# Altium integrated library NSC Interface.IntLib: 1288 symbols (part 31 of 45)
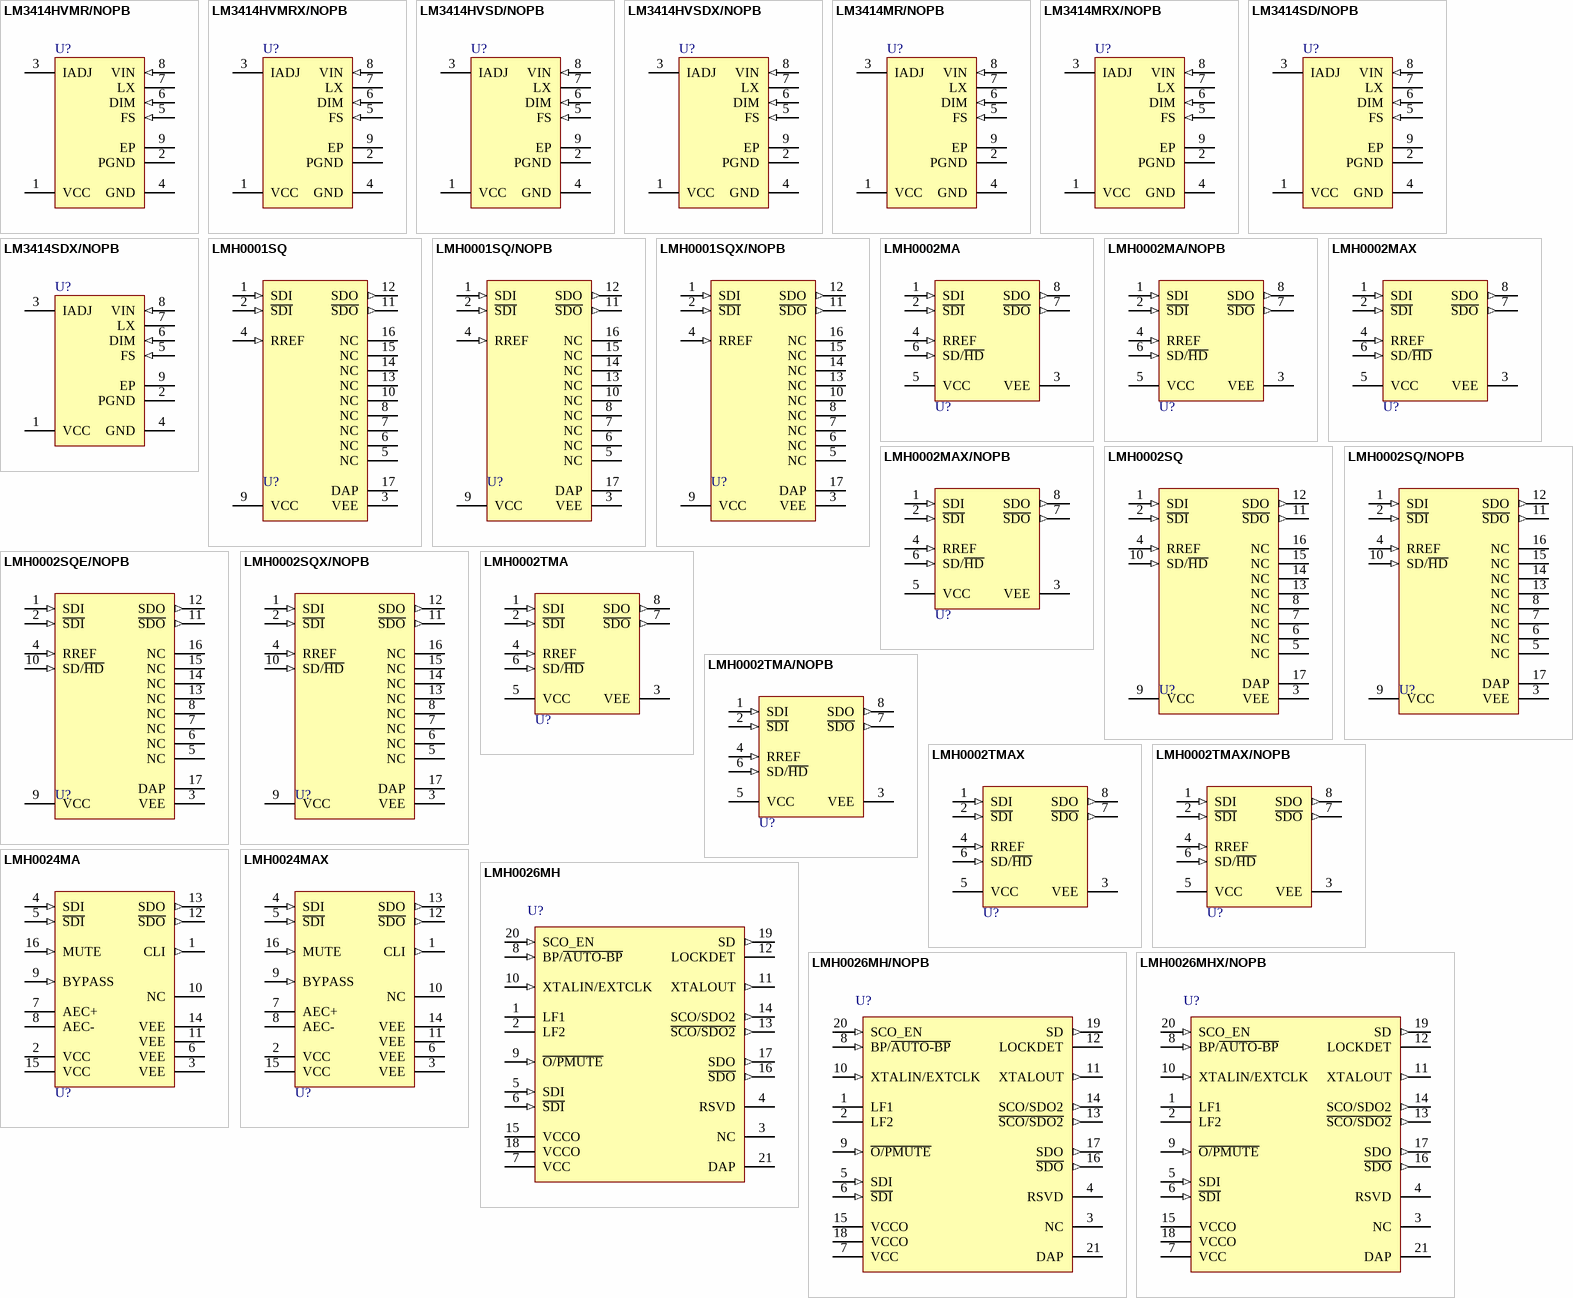
[diagram p142: symbols LM3414HVMR/NOPB to LMH0026MHX/NOPB]

## LMH0002SQ/NOPB
designator U?
SMPTE 292M / 259M Serial Digital Cable Driver, 16-pin LLP, Pb-Free; PartNumber: LMH0002SQ/NOPB; Manufacturer: National Semiconductor; PackageTopMarking: NS*UZXYTT*L002; PowerWise: N; CompType: Interface IC; Published: 1-Mar-2010; DatasheetVersion: Aug-2008; PackageVersion: revA, Dec-2005; PackageReference: SQB16A; Publisher: Altium Limited; PackageDescription: LLP, Plastic, Quad, 4 x 4 x 0.8mm, 16 Lead, 0.65mm Pitch, No Pullback; Supplier 1: Farnell; Supplier Part Number 1: 1345108; RoHS: Y; PinCount: 16; ComponentLink1Description: LMH0002 Datasheet; ComponentLink1URL: http://www.national.com/ds/LM/LMH0002.pdf; ComponentLink2Description: LMH0002 Web Page; ComponentLink2URL: http://www.national.com/pf/LM/LMH0002.html; ComponentLink3Description: SQB16A Package Page; ComponentLink3URL: http://www.national.com/packaging/folders/sqb16a.html
footprint SQB16A (QFN, 16-Leads, Body 4x4mm, Pitch 0.65mm, NSC Recommended)
pins: 1 SDI (in), 2 ~{SDI} (in), 3 VEE (power), 4 RREF (in), 5 NC, 6 NC, 7 NC, 8 NC, 9 VCC (power), 10 SD/~{HD} (in), 11 ~{SDO} (out), 12 SDO (out), 13 NC, 14 NC, 15 NC, 16 NC, 17 DAP (power)

## LMH0002SQE/NOPB
designator U?
SMPTE 292M / 259M Serial Digital Cable Driver, 16-pin LLP, Pb-Free; PartNumber: LMH0002SQE/NOPB; Manufacturer: National Semiconductor; PackageTopMarking: NS*UZXYTT*L002; PowerWise: N; CompType: Interface IC; Published: 1-Mar-2010; DatasheetVersion: Aug-2008; PackageVersion: revA, Dec-2005; PackageReference: SQB16A; Publisher: Altium Limited; PackageDescription: LLP, Plastic, Quad, 4 x 4 x 0.8mm, 16 Lead, 0.65mm Pitch, No Pullback; Supplier 1: Digi-Key; Supplier Part Number 1: LMH0002SQE/NOPBTR-ND; Supplier 2: Digi-Key; Supplier Part Number 2: LMH0002SQE/NOPBCT-ND; Supplier 3: Digi-Key; Supplier Part Number 3: LMH0002SQE/NOPBDKR-ND; RoHS: Y; PinCount: 16; ComponentLink1Description: LMH0002 Datasheet; ComponentLink1URL: http://www.national.com/ds/LM/LMH0002.pdf; ComponentLink2Description: LMH0002 Web Page; ComponentLink2URL: http://www.national.com/pf/LM/LMH0002.html; ComponentLink3Description: SQB16A Package Page; ComponentLink3URL: http://www.national.com/packaging/folders/sqb16a.html
footprint SQB16A (QFN, 16-Leads, Body 4x4mm, Pitch 0.65mm, NSC Recommended)
pins: 1 SDI (in), 2 ~{SDI} (in), 3 VEE (power), 4 RREF (in), 5 NC, 6 NC, 7 NC, 8 NC, 9 VCC (power), 10 SD/~{HD} (in), 11 ~{SDO} (out), 12 SDO (out), 13 NC, 14 NC, 15 NC, 16 NC, 17 DAP (power)

## LMH0002SQX/NOPB
designator U?
SMPTE 292M / 259M Serial Digital Cable Driver, 16-pin LLP, Pb-Free; PartNumber: LMH0002SQX/NOPB; Manufacturer: National Semiconductor; PackageTopMarking: NS*UZXYTT*L002; PowerWise: N; CompType: Interface IC; Published: 1-Mar-2010; DatasheetVersion: Aug-2008; PackageVersion: revA, Dec-2005; PackageReference: SQB16A; Publisher: Altium Limited; PackageDescription: LLP, Plastic, Quad, 4 x 4 x 0.8mm, 16 Lead, 0.65mm Pitch, No Pullback; Supplier 1: Digi-Key; Supplier Part Number 1: LMH0002SQX-ND; RoHS: Y; PinCount: 16; ComponentLink1Description: LMH0002 Datasheet; ComponentLink1URL: http://www.national.com/ds/LM/LMH0002.pdf; ComponentLink2Description: LMH0002 Web Page; ComponentLink2URL: http://www.national.com/pf/LM/LMH0002.html; ComponentLink3Description: SQB16A Package Page; ComponentLink3URL: http://www.national.com/packaging/folders/sqb16a.html
footprint SQB16A (QFN, 16-Leads, Body 4x4mm, Pitch 0.65mm, NSC Recommended)
pins: 1 SDI (in), 2 ~{SDI} (in), 3 VEE (power), 4 RREF (in), 5 NC, 6 NC, 7 NC, 8 NC, 9 VCC (power), 10 SD/~{HD} (in), 11 ~{SDO} (out), 12 SDO (out), 13 NC, 14 NC, 15 NC, 16 NC, 17 DAP (power)

## LMH0002TMA
designator U?
SMPTE 292M / 259M Serial Digital Cable Driver, 8-pin Narrow SOIC; PartNumber: LMH0002TMA; Manufacturer: National Semiconductor; PackageTopMarking: NSZXTT*L002T; PowerWise: N; CompType: Interface IC; Published: 4-Dec-2008; DatasheetVersion: Aug-2008; PackageVersion: revM, May-2009; PackageReference: M08A; Publisher: Altium Limited; PackageDescription: SOIC Narrow, 4.9 x 3.9 x 1.45mm, 8 Lead, 1.27mm Pitch; Supplier 1: Farnell; Supplier Part Number 1: 1286772; RoHS: N; PinCount: 8; Code_JEDEC: MS-012-AA; Code_IPC: SOIC127P600-8; ComponentLink1Description: LMH0002 Datasheet; ComponentLink1URL: http://www.national.com/ds/LM/LMH0002.pdf; ComponentLink2Description: LMH0002 Web Page; ComponentLink2URL: http://www.national.com/pf/LM/LMH0002.html; ComponentLink3Description: M08A Package Page; ComponentLink3URL: http://www.national.com/packaging/folders/m08a.html
footprint M08A_N (SOIC, 8-Leads, Body 4.9x3.9mm, Pitch 1.27mm, IPC Medium Density)
footprint M08A_L (SOIC, 8-Leads, Body 4.9x3.9mm, Pitch 1.27mm, IPC High Density)
footprint M08A_M (SOIC, 8-Leads, Body 4.9x3.9mm, Pitch 1.27mm, IPC Low Density)
pins: 1 SDI (in), 2 ~{SDI} (in), 3 VEE (power), 4 RREF (in), 5 VCC (power), 6 SD/~{HD} (in), 7 ~{SDO} (out), 8 SDO (out)

## LMH0002TMA/NOPB
designator U?
SMPTE 292M / 259M Serial Digital Cable Driver, 8-pin Narrow SOIC, Pb-Free; PartNumber: LMH0002TMA/NOPB; Manufacturer: National Semiconductor; PackageTopMarking: NSZXTT*L002T; PowerWise: N; CompType: Interface IC; Published: 1-Mar-2010; DatasheetVersion: Aug-2008; PackageVersion: revM, May-2009; PackageReference: M08A; Publisher: Altium Limited; PackageDescription: SOIC Narrow, 4.9 x 3.9 x 1.45mm, 8 Lead, 1.27mm Pitch; Supplier 1: Digi-Key; Supplier Part Number 1: LMH0002TMA-ND; RoHS: Y; PinCount: 8; Code_JEDEC: MS-012-AA; Code_IPC: SOIC127P600-8; ComponentLink1Description: LMH0002 Datasheet; ComponentLink1URL: http://www.national.com/ds/LM/LMH0002.pdf; ComponentLink2Description: LMH0002 Web Page; ComponentLink2URL: http://www.national.com/pf/LM/LMH0002.html; ComponentLink3Description: M08A Package Page; ComponentLink3URL: http://www.national.com/packaging/folders/m08a.html
footprint M08A_N (SOIC, 8-Leads, Body 4.9x3.9mm, Pitch 1.27mm, IPC Medium Density)
footprint M08A_L (SOIC, 8-Leads, Body 4.9x3.9mm, Pitch 1.27mm, IPC High Density)
footprint M08A_M (SOIC, 8-Leads, Body 4.9x3.9mm, Pitch 1.27mm, IPC Low Density)
pins: 1 SDI (in), 2 ~{SDI} (in), 3 VEE (power), 4 RREF (in), 5 VCC (power), 6 SD/~{HD} (in), 7 ~{SDO} (out), 8 SDO (out)

## LMH0002TMAX
designator U?
SMPTE 292M / 259M Serial Digital Cable Driver, 8-pin Narrow SOIC; PartNumber: LMH0002TMAX; Manufacturer: National Semiconductor; PackageTopMarking: NSZXTT*L002T; PowerWise: N; CompType: Interface IC; Published: 1-Mar-2010; DatasheetVersion: Aug-2008; PackageVersion: revM, May-2009; PackageReference: M08A; Publisher: Altium Limited; PackageDescription: SOIC Narrow, 4.9 x 3.9 x 1.45mm, 8 Lead, 1.27mm Pitch; RoHS: N; PinCount: 8; Code_JEDEC: MS-012-AA; Code_IPC: SOIC127P600-8; ComponentLink1Description: LMH0002 Datasheet; ComponentLink1URL: http://www.national.com/ds/LM/LMH0002.pdf; ComponentLink2Description: LMH0002 Web Page; ComponentLink2URL: http://www.national.com/pf/LM/LMH0002.html; ComponentLink3Description: M08A Package Page; ComponentLink3URL: http://www.national.com/packaging/folders/m08a.html
footprint M08A_N (SOIC, 8-Leads, Body 4.9x3.9mm, Pitch 1.27mm, IPC Medium Density)
footprint M08A_L (SOIC, 8-Leads, Body 4.9x3.9mm, Pitch 1.27mm, IPC High Density)
footprint M08A_M (SOIC, 8-Leads, Body 4.9x3.9mm, Pitch 1.27mm, IPC Low Density)
pins: 1 SDI (in), 2 ~{SDI} (in), 3 VEE (power), 4 RREF (in), 5 VCC (power), 6 SD/~{HD} (in), 7 ~{SDO} (out), 8 SDO (out)

## LMH0002TMAX/NOPB
designator U?
SMPTE 292M / 259M Serial Digital Cable Driver, 8-pin Narrow SOIC, Pb-Free; PartNumber: LMH0002TMAX/NOPB; Manufacturer: National Semiconductor; PackageTopMarking: NSZXTT*L002T; PowerWise: N; CompType: Interface IC; Published: 1-Mar-2010; DatasheetVersion: Aug-2008; PackageVersion: revM, May-2009; PackageReference: M08A; Publisher: Altium Limited; PackageDescription: SOIC Narrow, 4.9 x 3.9 x 1.45mm, 8 Lead, 1.27mm Pitch; Supplier 1: Digi-Key; Supplier Part Number 1: LMH0002TMAX-ND; RoHS: Y; PinCount: 8; Code_JEDEC: MS-012-AA; Code_IPC: SOIC127P600-8; ComponentLink1Description: LMH0002 Datasheet; ComponentLink1URL: http://www.national.com/ds/LM/LMH0002.pdf; ComponentLink2Description: LMH0002 Web Page; ComponentLink2URL: http://www.national.com/pf/LM/LMH0002.html; ComponentLink3Description: M08A Package Page; ComponentLink3URL: http://www.national.com/packaging/folders/m08a.html
footprint M08A_N (SOIC, 8-Leads, Body 4.9x3.9mm, Pitch 1.27mm, IPC Medium Density)
footprint M08A_L (SOIC, 8-Leads, Body 4.9x3.9mm, Pitch 1.27mm, IPC High Density)
footprint M08A_M (SOIC, 8-Leads, Body 4.9x3.9mm, Pitch 1.27mm, IPC Low Density)
pins: 1 SDI (in), 2 ~{SDI} (in), 3 VEE (power), 4 RREF (in), 5 VCC (power), 6 SD/~{HD} (in), 7 ~{SDO} (out), 8 SDO (out)

## LMH0024MA
designator U?
SMPTE 259M / 259M Adaptive Cable Equalizer, 16-pin Narrow SOIC; PartNumber: LMH0024MA; Manufacturer: National Semiconductor; PackageTopMarking: NSUZXYTTE#*L024; PowerWise: N; CompType: Interface IC; Published: 4-Dec-2008; DatasheetVersion: Jul-2009; PackageVersion: revJ, Aug-1995; PackageReference: M16A; Publisher: Altium Limited; PackageDescription: Molded Package, SO, .150in Wide, 16 Lead; RoHS: N; PinCount: 16; Code_JEDEC: MS-012-AC; Code_IPC: SOIC127P600-16; ComponentLink1Description: LMH0024 Datasheet; ComponentLink1URL: http://www.national.com/ds/LM/LMH0024.pdf; ComponentLink2Description: LMH0024 Web Page; ComponentLink2URL: http://www.national.com/pf/LM/LMH0024.html; ComponentLink3Description: M16A Package Page; ComponentLink3URL: http://www.national.com/packaging/folders/m16a.html
footprint M16A_N (SOIC, 16-Leads, Body 9.9x3.9mm, Pitch 1.27mm, IPC Medium Density)
footprint M16A_L (SOIC, 16-Leads, Body 9.9x3.9mm, Pitch 1.27mm, IPC High Density)
footprint M16A_M (SOIC, 16-Leads, Body 9.9x3.9mm, Pitch 1.27mm, IPC Low Density)
pins: 1 CLI (out), 2 VCC (power), 3 VEE (power), 4 SDI (in), 5 ~{SDI} (in), 6 VEE (power), 7 AEC+, 8 AEC-, 9 BYPASS (in), 10 NC, 11 VEE (power), 12 ~{SDO} (out), 13 SDO (out), 14 VEE (power), 15 VCC (power), 16 MUTE (in)

## LMH0024MAX
designator U?
3.3V SMPTE 259M / 344M Adaptive Cable Equalizer, 16-pin Narrow SOIC; PartNumber: LMH0024MAX; Manufacturer: National Semiconductor; PackageTopMarking: NSUZXYTTE#*L024; PowerWise: N; CompType: Interface IC; Published: 1-Mar-2010; DatasheetVersion: Jul-2009; PackageVersion: revJ, Aug-1995; PackageReference: M16A; Publisher: Altium Limited; PackageDescription: Molded Package, SO, .150in Wide, 16 Lead; RoHS: N; PinCount: 16; Code_JEDEC: MS-012-AC; Code_IPC: SOIC127P600-16; ComponentLink1Description: LMH0024 Datasheet; ComponentLink1URL: http://www.national.com/ds/LM/LMH0024.pdf; ComponentLink2Description: LMH0024 Web Page; ComponentLink2URL: http://www.national.com/pf/LM/LMH0024.html; ComponentLink3Description: M16A Package Page; ComponentLink3URL: http://www.national.com/packaging/folders/m16a.html
footprint M16A_N (SOIC, 16-Leads, Body 9.9x3.9mm, Pitch 1.27mm, IPC Medium Density)
footprint M16A_L (SOIC, 16-Leads, Body 9.9x3.9mm, Pitch 1.27mm, IPC High Density)
footprint M16A_M (SOIC, 16-Leads, Body 9.9x3.9mm, Pitch 1.27mm, IPC Low Density)
pins: 1 CLI (out), 2 VCC (power), 3 VEE (power), 4 SDI (in), 5 ~{SDI} (in), 6 VEE (power), 7 AEC+, 8 AEC-, 9 BYPASS (in), 10 NC, 11 VEE (power), 12 ~{SDO} (out), 13 SDO (out), 14 VEE (power), 15 VCC (power), 16 MUTE (in)

## LMH0026MH
designator U?
SD SDI Reclocker with Dual Differential Outputs, 20-pin TSSOP-EP; PartNumber: LMH0026MH; Manufacturer: National Semiconductor; PackageTopMarking: NSUZXYTT*L026; PowerWise: N; CompType: Interface IC; Published: 4-Dec-2008; DatasheetVersion: Mar-2008; PackageVersion: revC, Jul-2006; PackageReference: MXA20A; Publisher: Altium Limited; PackageDescription: Molded TSSOP, Jedec, 6.5 x 4.4 x 0.9mm Body, 20 Lead, 0.65mm Pitch, Exposed Pad; Supplier 1: Farnell; Supplier Part Number 1: 1689547; RoHS: Y; PinCount: 20; Code_JEDEC: MO-153-ACT; ComponentLink1Description: LMH0026 Datasheet; ComponentLink1URL: http://www.national.com/ds/LM/LMH0026.pdf; ComponentLink2Description: LMH0026 Web Page; ComponentLink2URL: http://www.national.com/pf/LM/LMH0026.html; ComponentLink3Description: MXA20A Package Page; ComponentLink3URL: http://www.national.com/packaging/folders/mxa20a.html
footprint MXA20A_N (TSOP, 20-Leads, Body 6.5x4.4mm, Pitch 0.65mm, Exposed Pad, IPC Medium Density)
footprint MXA20A_L (TSOP, 20-Leads, Body 6.5x4.4mm, Pitch 0.65mm, Exposed Pad, IPC High Density)
footprint MXA20A_M (TSOP, 20-Leads, Body 6.5x4.4mm, Pitch 0.65mm, Exposed Pad, IPC Low Density)
pins: 1 LF1, 2 LF2, 3 NC, 4 RSVD, 5 SDI (in), 6 ~{SDI} (in), 7 VCC (power), 8 BP/~{AUTO-BP} (in), 9 ~{O/PMUTE} (in), 10 XTALIN/EXTCLK (in), 11 XTALOUT (out), 12 LOCKDET, 13 ~{SCO/SDO2} (out), 14 SCO/SDO2 (out), 15 VCCO (power), 16 ~{SDO} (out), 17 SDO (out), 18 VCCO (power), 19 SD (out), 20 SCO_EN (in), 21 DAP (power)

## LMH0026MH/NOPB
designator U?
SD SDI Reclocker with Dual Differential Outputs, 20-pin TSSOP-EP, Pb-Free; PartNumber: LMH0026MH/NOPB; Manufacturer: National Semiconductor; PackageTopMarking: NSUZXYTT*L026; PowerWise: N; CompType: Interface IC; Published: 1-Mar-2010; DatasheetVersion: Mar-2008; PackageVersion: revC, Jul-2006; PackageReference: MXA20A; Publisher: Altium Limited; PackageDescription: Molded TSSOP, Jedec, 6.5 x 4.4 x 0.9mm Body, 20 Lead, 0.65mm Pitch, Exposed Pad; Supplier 1: Digi-Key; Supplier Part Number 1: LMH0026MH-ND; RoHS: Y; PinCount: 20; Code_JEDEC: MO-153-ACT; ComponentLink1Description: LMH0026 Datasheet; ComponentLink1URL: http://www.national.com/ds/LM/LMH0026.pdf; ComponentLink2Description: LMH0026 Web Page; ComponentLink2URL: http://www.national.com/pf/LM/LMH0026.html; ComponentLink3Description: MXA20A Package Page; ComponentLink3URL: http://www.national.com/packaging/folders/mxa20a.html
footprint MXA20A_N (TSOP, 20-Leads, Body 6.5x4.4mm, Pitch 0.65mm, Exposed Pad, IPC Medium Density)
footprint MXA20A_L (TSOP, 20-Leads, Body 6.5x4.4mm, Pitch 0.65mm, Exposed Pad, IPC High Density)
footprint MXA20A_M (TSOP, 20-Leads, Body 6.5x4.4mm, Pitch 0.65mm, Exposed Pad, IPC Low Density)
pins: 1 LF1, 2 LF2, 3 NC, 4 RSVD, 5 SDI (in), 6 ~{SDI} (in), 7 VCC (power), 8 BP/~{AUTO-BP} (in), 9 ~{O/PMUTE} (in), 10 XTALIN/EXTCLK (in), 11 XTALOUT (out), 12 LOCKDET, 13 ~{SCO/SDO2} (out), 14 SCO/SDO2 (out), 15 VCCO (power), 16 ~{SDO} (out), 17 SDO (out), 18 VCCO (power), 19 SD (out), 20 SCO_EN (in), 21 DAP (power)

## LMH0026MHX/NOPB
designator U?
SD SDI Reclocker with Dual Differential Outputs, 20-pin TSSOP-EP, Pb-Free; PartNumber: LMH0026MHX/NOPB; Manufacturer: National Semiconductor; PackageTopMarking: NSUZXYTT*L026; PowerWise: N; CompType: Interface IC; Published: 1-Mar-2010; DatasheetVersion: Mar-2008; PackageVersion: revC, Jul-2006; PackageReference: MXA20A; Publisher: Altium Limited; PackageDescription: Molded TSSOP, Jedec, 6.5 x 4.4 x 0.9mm Body, 20 Lead, 0.65mm Pitch, Exposed Pad; Supplier 1: Digi-Key; Supplier Part Number 1: LMH0026MHX-ND; RoHS: Y; PinCount: 20; Code_JEDEC: MO-153-ACT; ComponentLink1Description: LMH0026 Datasheet; ComponentLink1URL: http://www.national.com/ds/LM/LMH0026.pdf; ComponentLink2Description: LMH0026 Web Page; ComponentLink2URL: http://www.national.com/pf/LM/LMH0026.html; ComponentLink3Description: MXA20A Package Page; ComponentLink3URL: http://www.national.com/packaging/folders/mxa20a.html
footprint MXA20A_N (TSOP, 20-Leads, Body 6.5x4.4mm, Pitch 0.65mm, Exposed Pad, IPC Medium Density)
footprint MXA20A_L (TSOP, 20-Leads, Body 6.5x4.4mm, Pitch 0.65mm, Exposed Pad, IPC High Density)
footprint MXA20A_M (TSOP, 20-Leads, Body 6.5x4.4mm, Pitch 0.65mm, Exposed Pad, IPC Low Density)
pins: 1 LF1, 2 LF2, 3 NC, 4 RSVD, 5 SDI (in), 6 ~{SDI} (in), 7 VCC (power), 8 BP/~{AUTO-BP} (in), 9 ~{O/PMUTE} (in), 10 XTALIN/EXTCLK (in), 11 XTALOUT (out), 12 LOCKDET, 13 ~{SCO/SDO2} (out), 14 SCO/SDO2 (out), 15 VCCO (power), 16 ~{SDO} (out), 17 SDO (out), 18 VCCO (power), 19 SD (out), 20 SCO_EN (in), 21 DAP (power)

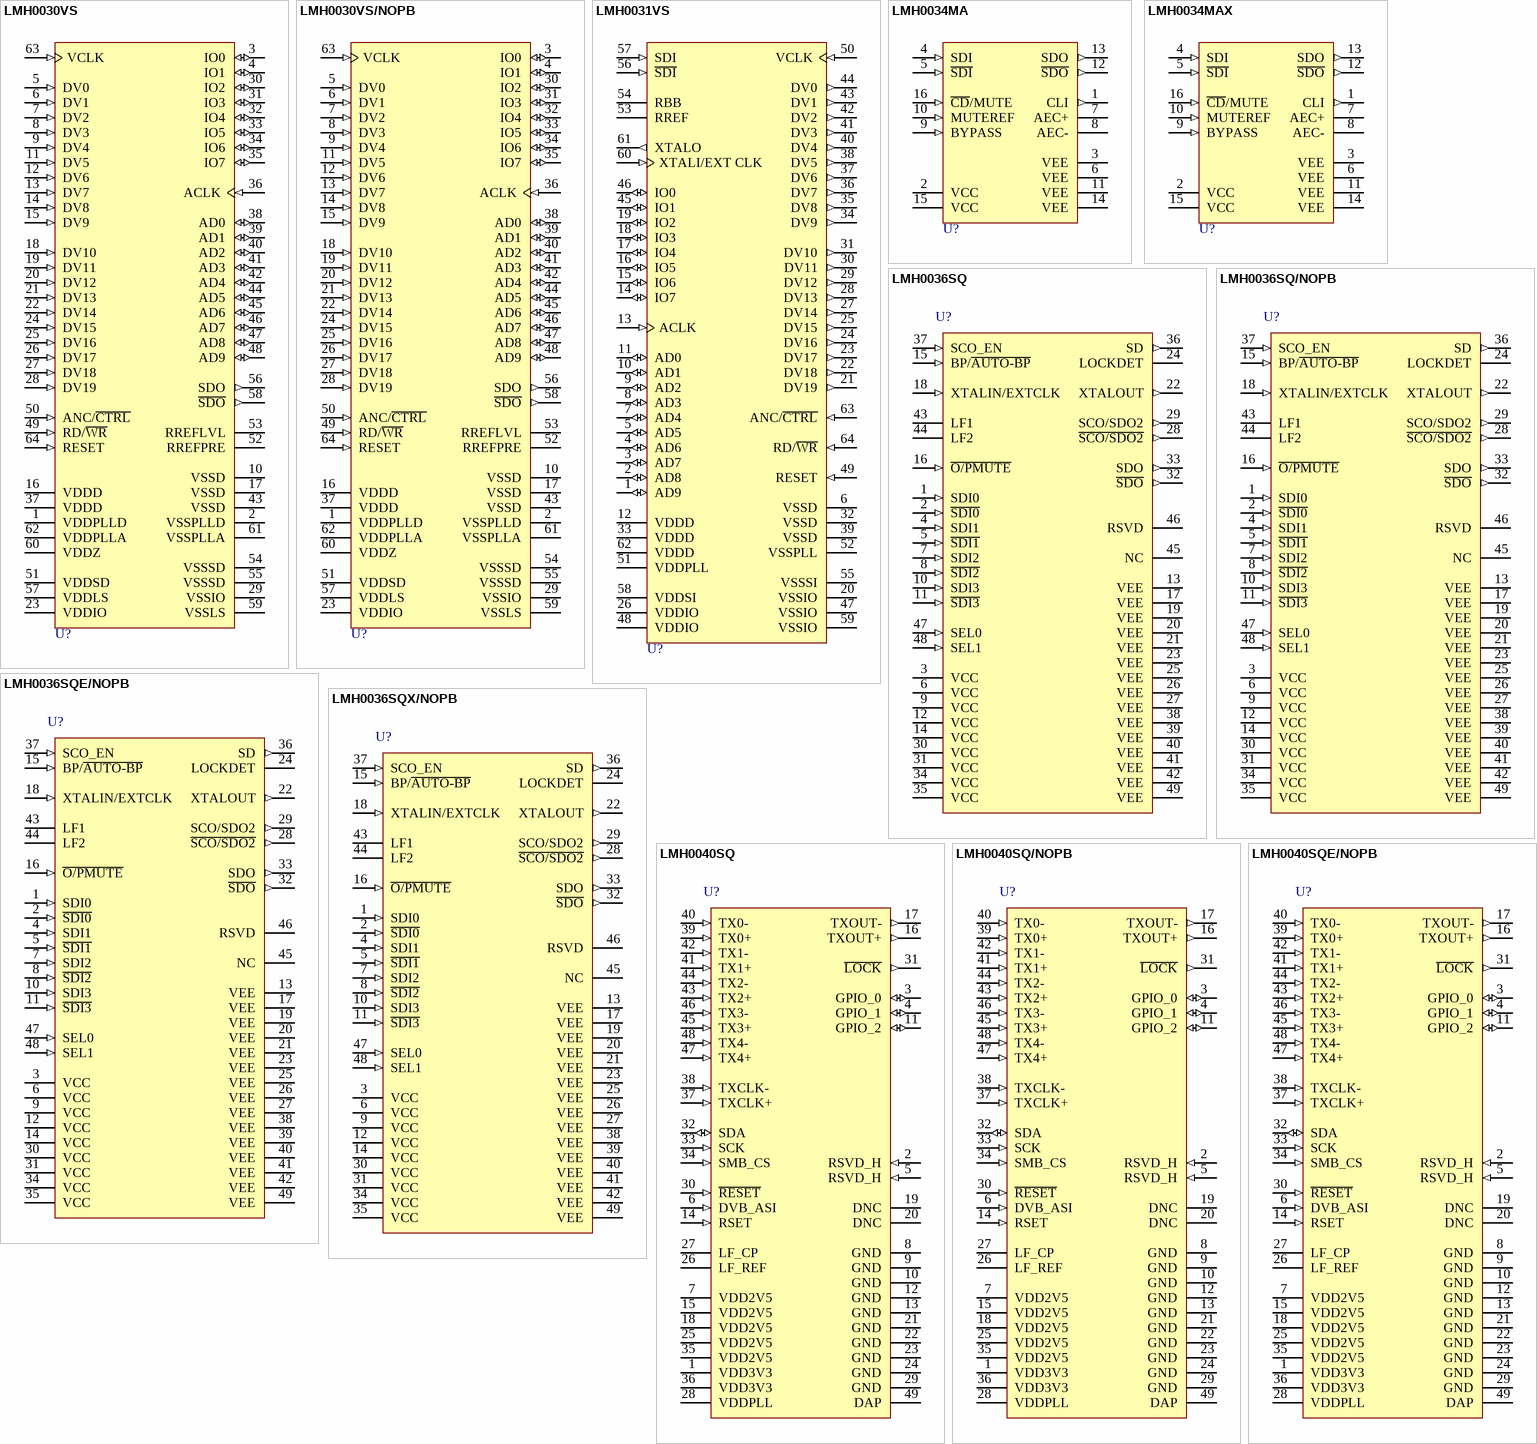
[diagram p77: symbols LMH0030VS to LMH0040SQE/NOPB]

## LMH0030VS
designator U?
SMPTE 292M / 259M Digital Video Serializer with Ancilliary Data FIFO and Integrated Cable Driver, 64-pin TQFP; PartNumber: LMH0030VS; Manufacturer: National Semiconductor; PackageTopMarking: NSUZXYYTTE#*L030; PowerWise: N; CompType: Interface IC; Published: 4-Dec-2008; DatasheetVersion: Oct-2008; PackageVersion: revB, Jul-2003; PackageReference: VEC64A; Publisher: Altium Limited; PackageDescription: TQFP, Jedec Metric, 10 x 10 x 1.0mm, 64 Lead, 0.5mm Pitch; Supplier 1: Farnell; Supplier Part Number 1: 1495081; RoHS: N; PinCount: 64; Code_JEDEC: MS-026-ACD; ComponentLink1Description: LMH0030 Datasheet; ComponentLink1URL: http://www.national.com/ds/LM/LMH0030.pdf; ComponentLink2Description: LMH0030 Web Page; ComponentLink2URL: http://www.national.com/pf/LM/LMH0030.html; ComponentLink3Description: VEC64A Package Page; ComponentLink3URL: http://www.national.com/packaging/folders/vec64a.html
footprint VEC64A_N (Thin QFP, 64-Leads, Body 10x10mm, Pitch 0.5mm, IPC Medium Density)
footprint VEC64A_L (Thin QFP, 64-Leads, Body 10x10mm, Pitch 0.5mm, IPC High Density)
footprint VEC64A_M (Thin QFP, 64-Leads, Body 10x10mm, Pitch 0.5mm, IPC Low Density)
pins: 1 VDDPLLD (power), 2 VSSPLLD (power), 3 IO0 (io), 4 IO1 (io), 5 DV0 (in), 6 DV1 (in), 7 DV2 (in), 8 DV3 (in), 9 DV4 (in), 10 VSSD (power), 11 DV5 (in), 12 DV6 (in), 13 DV7 (in), 14 DV8 (in), 15 DV9 (in), 16 VDDD (power), 17 VSSD (power), 18 DV10 (in), 19 DV11 (in), 20 DV12 (in), 21 DV13 (in), 22 DV14 (in), 23 VDDIO (power), 24 DV15 (in), 25 DV16 (in), 26 DV17 (in), 27 DV18 (in), 28 DV19 (in), 29 VSSIO (power), 30 IO2 (io), 31 IO3 (io), 32 IO4 (io), 33 IO5 (io), 34 IO6 (io), 35 IO7 (io), 36 ACLK (in), 37 VDDD (power), 38 AD0 (io), 39 AD1 (io), 40 AD2 (io), 41 AD3 (io), 42 AD4 (io), 43 VSSD (power), 44 AD5 (io), 45 AD6 (io), 46 AD7 (io), 47 AD8 (io), 48 AD9 (io), 49 RD/~{WR} (in), 50 ANC/~{CTRL} (in), 51 VDDSD (power), 52 RREFPRE, 53 RREFLVL, 54 VSSSD (power), 55 VSSSD (power), 56 SDO (out), 57 VDDLS (power), 58 ~{SDO} (out), 59 VSSLS (power), 60 VDDZ (power), 61 VSSPLLA (power), 62 VDDPLLA (power), 63 VCLK (in), 64 RESET (in)

## LMH0030VS/NOPB
designator U?
SMPTE 292M/259M Digital Video Serializer with Video and Ancillary Data FIFOs and Integrated Cable Driver, 64-pin TQFP, Pb-Free; PartNumber: LMH0030VS/NOPB; Manufacturer: National Semiconductor; PackageTopMarking: NSUZXYYTTE#*L030; PowerWise: N; CompType: Interface IC; Published: 1-Mar-2010; DatasheetVersion: Oct-2008; PackageVersion: revB, Jul-2003; PackageReference: VEC64A; Publisher: Altium Limited; PackageDescription: TQFP, Jedec Metric, 10 x 10 x 1.0mm, 64 Lead, 0.5mm Pitch; Supplier 1: Digi-Key; Supplier Part Number 1: LMH0030VS-ND; Supplier 2: Farnell; Supplier Part Number 2: 1694396; RoHS: Y; PinCount: 64; Code_JEDEC: MS-026-ACD; ComponentLink1Description: LMH0030 Datasheet; ComponentLink1URL: http://www.national.com/ds/LM/LMH0030.pdf; ComponentLink2Description: LMH0030 Web Page; ComponentLink2URL: http://www.national.com/pf/LM/LMH0030.html; ComponentLink3Description: VEC64A Package Page; ComponentLink3URL: http://www.national.com/packaging/folders/vec64a.html
footprint VEC64A_N (Thin QFP, 64-Leads, Body 10x10mm, Pitch 0.5mm, IPC Medium Density)
footprint VEC64A_L (Thin QFP, 64-Leads, Body 10x10mm, Pitch 0.5mm, IPC High Density)
footprint VEC64A_M (Thin QFP, 64-Leads, Body 10x10mm, Pitch 0.5mm, IPC Low Density)
pins: 1 VDDPLLD (power), 2 VSSPLLD (power), 3 IO0 (io), 4 IO1 (io), 5 DV0 (in), 6 DV1 (in), 7 DV2 (in), 8 DV3 (in), 9 DV4 (in), 10 VSSD (power), 11 DV5 (in), 12 DV6 (in), 13 DV7 (in), 14 DV8 (in), 15 DV9 (in), 16 VDDD (power), 17 VSSD (power), 18 DV10 (in), 19 DV11 (in), 20 DV12 (in), 21 DV13 (in), 22 DV14 (in), 23 VDDIO (power), 24 DV15 (in), 25 DV16 (in), 26 DV17 (in), 27 DV18 (in), 28 DV19 (in), 29 VSSIO (power), 30 IO2 (io), 31 IO3 (io), 32 IO4 (io), 33 IO5 (io), 34 IO6 (io), 35 IO7 (io), 36 ACLK (in), 37 VDDD (power), 38 AD0 (io), 39 AD1 (io), 40 AD2 (io), 41 AD3 (io), 42 AD4 (io), 43 VSSD (power), 44 AD5 (io), 45 AD6 (io), 46 AD7 (io), 47 AD8 (io), 48 AD9 (io), 49 RD/~{WR} (in), 50 ANC/~{CTRL} (in), 51 VDDSD (power), 52 RREFPRE, 53 RREFLVL, 54 VSSSD (power), 55 VSSSD (power), 56 SDO (out), 57 VDDLS (power), 58 ~{SDO} (out), 59 VSSLS (power), 60 VDDZ (power), 61 VSSPLLA (power), 62 VDDPLLA (power), 63 VCLK (in), 64 RESET (in)

## LMH0031VS
designator U?
SMPTE 292M/259M Digital Video Deserializer / Descrambler with Video and Ancillary Data FIFOs, 64-pin TQFP; PartNumber: LMH0031VS; Manufacturer: National Semiconductor; PackageTopMarking: NSUZXYYTTE#*L031; PowerWise: N; CompType: Interface IC; Published: 4-Dec-2008; DatasheetVersion: Jan-2006; PackageVersion: revB, Jul-2003; PackageReference: VEC64A; Publisher: Altium Limited; PackageDescription: TQFP, Jedec Metric, 10 x 10 x 1.0mm, 64 Lead, 0.5mm Pitch; Supplier 1: Farnell; Supplier Part Number 1: 1495080; RoHS: N; PinCount: 64; Code_JEDEC: MS-026-ACD; ComponentLink1Description: LMH0031 Datasheet; ComponentLink1URL: http://www.national.com/ds/LM/LMH0031.pdf; ComponentLink2Description: LMH0031 Web Page; ComponentLink2URL: http://www.national.com/pf/LM/LMH0031.html; ComponentLink3Description: VEC64A Package Page; ComponentLink3URL: http://www.national.com/packaging/folders/vec64a.html
footprint VEC64A_N (Thin QFP, 64-Leads, Body 10x10mm, Pitch 0.5mm, IPC Medium Density)
footprint VEC64A_L (Thin QFP, 64-Leads, Body 10x10mm, Pitch 0.5mm, IPC High Density)
footprint VEC64A_M (Thin QFP, 64-Leads, Body 10x10mm, Pitch 0.5mm, IPC Low Density)
pins: 1 AD9 (io), 2 AD8 (io), 3 AD7 (io), 4 AD6 (io), 5 AD5 (io), 6 VSSD (power), 7 AD4 (io), 8 AD3 (io), 9 AD2 (io), 10 AD1 (io), 11 AD0 (io), 12 VDDD (power), 13 ACLK (in), 14 IO7 (io), 15 IO6 (io), 16 IO5 (io), 17 IO4 (io), 18 IO3 (io), 19 IO2 (io), 20 VSSIO (power), 21 DV19 (out), 22 DV18 (out), 23 DV17 (out), 24 DV16 (out), 25 DV15 (out), 26 VDDIO (power), 27 DV14 (out), 28 DV13 (out), 29 DV12 (out), 30 DV11 (out), 31 DV10 (out), 32 VSSD (power), 33 VDDD (power), 34 DV9 (out), 35 DV8 (out), 36 DV7 (out), 37 DV6 (out), 38 DV5 (out), 39 VSSD (power), 40 DV4 (out), 41 DV3 (out), 42 DV2 (out), 43 DV1 (out), 44 DV0 (out), 45 IO1 (io), 46 IO0 (io), 47 VSSIO (power), 48 VDDIO (power), 49 RESET (in), 50 VCLK (in), 51 VDDPLL (power), 52 VSSPLL (power), 53 RREF, 54 RBB, 55 VSSSI (power), 56 ~{SDI} (in), 57 SDI (in), 58 VDDSI (power), 59 VSSIO (power), 60 XTALI/EXT CLK (in), 61 XTALO (out), 62 VDDD (power), 63 ANC/~{CTRL} (in), 64 RD/~{WR} (in)

## LMH0034MA
designator U?
SMPTE 292M / 259M Adaptive Cable Equalizer, 16-pin Narrow SOIC; PartNumber: LMH0034MA; Manufacturer: National Semiconductor; PackageTopMarking: NSUZXYTTE#*L034; PowerWise: N; CompType: Interface IC; Published: 4-Dec-2008; DatasheetVersion: Jul-2009; PackageVersion: revJ, Aug-1995; PackageReference: M16A; Publisher: Altium Limited; PackageDescription: Molded Package, SO, .150in Wide, 16 Lead; RoHS: N; PinCount: 16; Code_JEDEC: MS-012-AC; Code_IPC: SOIC127P600-16; ComponentLink1Description: LMH0034 Datasheet; ComponentLink1URL: http://www.national.com/ds/LM/LMH0034.pdf; ComponentLink2Description: LMH0034 Web Page; ComponentLink2URL: http://www.national.com/pf/LM/LMH0034.html; ComponentLink3Description: M16A Package Page; ComponentLink3URL: http://www.national.com/packaging/folders/m16a.html
footprint M16A_N (SOIC, 16-Leads, Body 9.9x3.9mm, Pitch 1.27mm, IPC Medium Density)
footprint M16A_L (SOIC, 16-Leads, Body 9.9x3.9mm, Pitch 1.27mm, IPC High Density)
footprint M16A_M (SOIC, 16-Leads, Body 9.9x3.9mm, Pitch 1.27mm, IPC Low Density)
pins: 1 CLI (out), 2 VCC (power), 3 VEE (power), 4 SDI (in), 5 ~{SDI} (in), 6 VEE (power), 7 AEC+, 8 AEC-, 9 BYPASS (in), 10 MUTEREF (in), 11 VEE (power), 12 ~{SDO} (out), 13 SDO (out), 14 VEE (power), 15 VCC (power), 16 ~{CD}/MUTE (in)

## LMH0034MAX
designator U?
SMPTE 292M / 259M Adaptive Cable Equalizer, 16-pin Narrow SOIC; PartNumber: LMH0034MAX; Manufacturer: National Semiconductor; PackageTopMarking: NSUZXYTTE#*L034; PowerWise: N; CompType: Interface IC; Published: 1-Mar-2010; DatasheetVersion: Jul-2009; PackageVersion: revJ, Aug-1995; PackageReference: M16A; Publisher: Altium Limited; PackageDescription: Molded Package, SO, .150in Wide, 16 Lead; RoHS: N; PinCount: 16; Code_JEDEC: MS-012-AC; Code_IPC: SOIC127P600-16; ComponentLink1Description: LMH0034 Datasheet; ComponentLink1URL: http://www.national.com/ds/LM/LMH0034.pdf; ComponentLink2Description: LMH0034 Web Page; ComponentLink2URL: http://www.national.com/pf/LM/LMH0034.html; ComponentLink3Description: M16A Package Page; ComponentLink3URL: http://www.national.com/packaging/folders/m16a.html
footprint M16A_N (SOIC, 16-Leads, Body 9.9x3.9mm, Pitch 1.27mm, IPC Medium Density)
footprint M16A_L (SOIC, 16-Leads, Body 9.9x3.9mm, Pitch 1.27mm, IPC High Density)
footprint M16A_M (SOIC, 16-Leads, Body 9.9x3.9mm, Pitch 1.27mm, IPC Low Density)
pins: 1 CLI (out), 2 VCC (power), 3 VEE (power), 4 SDI (in), 5 ~{SDI} (in), 6 VEE (power), 7 AEC+, 8 AEC-, 9 BYPASS (in), 10 MUTEREF (in), 11 VEE (power), 12 ~{SDO} (out), 13 SDO (out), 14 VEE (power), 15 VCC (power), 16 ~{CD}/MUTE (in)

## LMH0036SQ
designator U?
SD SDI Reclocker with 4:1 Input Multiplexer, 48-pin LLP; PartNumber: LMH0036SQ; Manufacturer: National Semiconductor; PackageTopMarking: NS*UZXYTT*XL036; PowerWise: N; CompType: Interface IC; Published: 4-Dec-2008; DatasheetVersion: Aug-2008; PackageVersion: revB, May-2009; PackageReference: SQA48A; Publisher: Altium Limited; PackageDescription: LLP, Plastic, Quad, 7 x 7 x 0.8mm Body, 48 Lead, 0.5mm Pitch, No Pullback; RoHS: Y; PinCount: 48; Code_JEDEC: MO-220-WKKD-2; ComponentLink1Description: LMH0036 Datasheet; ComponentLink1URL: http://www.national.com/ds/LM/LMH0036.pdf; ComponentLink2Description: LMH0036 Web Page; ComponentLink2URL: http://www.national.com/pf/LM/LMH0036.html; ComponentLink3Description: SQA48A Package Page; ComponentLink3URL: http://www.national.com/packaging/folders/sqa48a.html
footprint SQA48A (QFN, 48-Leads, Body 7x7mm, Pitch 0.5mm, NSC Recommended)
pins: 1 SDI0 (in), 2 ~{SDI0} (in), 3 VCC (power), 4 SDI1 (in), 5 ~{SDI1} (in), 6 VCC (power), 7 SDI2 (in), 8 ~{SDI2} (in), 9 VCC (power), 10 SDI3 (in), 11 ~{SDI3} (in), 12 VCC (power), 13 VEE (power), 14 VCC (power), 15 BP/~{AUTO-BP} (in), 16 ~{O/PMUTE} (in), 17 VEE (power), 18 XTALIN/EXTCLK (in), 19 VEE (power), 20 VEE (power), 21 VEE (power), 22 XTALOUT (out), 23 VEE (power), 24 LOCKDET, 25 VEE (power), 26 VEE (power), 27 VEE (power), 28 ~{SCO/SDO2} (out), 29 SCO/SDO2 (out), 30 VCC (power), 31 VCC (power), 32 ~{SDO} (out), 33 SDO (out), 34 VCC (power), 35 VCC (power), 36 SD (out), 37 SCO_EN (in), 38 VEE (power), 39 VEE (power), 40 VEE (power), 41 VEE (power), 42 VEE (power), 43 LF1, 44 LF2, 45 NC, 46 RSVD, 47 SEL0 (in), 48 SEL1 (in), 49 VEE (power)

## LMH0036SQ/NOPB
designator U?
SD SDI Reclocker with 4:1 Input Multiplexer, 48-pin LLP, Pb-Free; PartNumber: LMH0036SQ/NOPB; Manufacturer: National Semiconductor; PackageTopMarking: NS*UZXYTTE#*XL036; PowerWise: N; CompType: Interface IC; Published: 1-Mar-2010; DatasheetVersion: Aug-2008; PackageVersion: revB, May-2009; PackageReference: SQA48A; Publisher: Altium Limited; PackageDescription: LLP, Plastic, Quad, 7 x 7 x 0.8mm Body, 48 Lead, 0.5mm Pitch, No Pullback; Supplier 1: Digi-Key; Supplier Part Number 1: LMH0036SQ-ND; RoHS: Y; PinCount: 48; Code_JEDEC: MO-220-WKKD-2; ComponentLink1Description: LMH0036 Datasheet; ComponentLink1URL: http://www.national.com/ds/LM/LMH0036.pdf; ComponentLink2Description: LMH0036 Web Page; ComponentLink2URL: http://www.national.com/pf/LM/LMH0036.html; ComponentLink3Description: SQA48A Package Page; ComponentLink3URL: http://www.national.com/packaging/folders/sqa48a.html
footprint SQA48A (QFN, 48-Leads, Body 7x7mm, Pitch 0.5mm, NSC Recommended)
pins: 1 SDI0 (in), 2 ~{SDI0} (in), 3 VCC (power), 4 SDI1 (in), 5 ~{SDI1} (in), 6 VCC (power), 7 SDI2 (in), 8 ~{SDI2} (in), 9 VCC (power), 10 SDI3 (in), 11 ~{SDI3} (in), 12 VCC (power), 13 VEE (power), 14 VCC (power), 15 BP/~{AUTO-BP} (in), 16 ~{O/PMUTE} (in), 17 VEE (power), 18 XTALIN/EXTCLK (in), 19 VEE (power), 20 VEE (power), 21 VEE (power), 22 XTALOUT (out), 23 VEE (power), 24 LOCKDET, 25 VEE (power), 26 VEE (power), 27 VEE (power), 28 ~{SCO/SDO2} (out), 29 SCO/SDO2 (out), 30 VCC (power), 31 VCC (power), 32 ~{SDO} (out), 33 SDO (out), 34 VCC (power), 35 VCC (power), 36 SD (out), 37 SCO_EN (in), 38 VEE (power), 39 VEE (power), 40 VEE (power), 41 VEE (power), 42 VEE (power), 43 LF1, 44 LF2, 45 NC, 46 RSVD, 47 SEL0 (in), 48 SEL1 (in), 49 VEE (power)

## LMH0036SQE/NOPB
designator U?
SD SDI Reclocker with 4:1 Input Multiplexer, 48-pin LLP, Pb-Free; PartNumber: LMH0036SQE/NOPB; Manufacturer: National Semiconductor; PackageTopMarking: NS*UZXYTTE#*XL036; PowerWise: N; CompType: Interface IC; Published: 1-Mar-2010; DatasheetVersion: Aug-2008; PackageVersion: revB, May-2009; PackageReference: SQA48A; Publisher: Altium Limited; PackageDescription: LLP, Plastic, Quad, 7 x 7 x 0.8mm Body, 48 Lead, 0.5mm Pitch, No Pullback; Supplier 1: Digi-Key; Supplier Part Number 1: LMH0036SQE/NOPBTR-ND; Supplier 2: Digi-Key; Supplier Part Number 2: LMH0036SQE/NOPBCT-ND; Supplier 3: Digi-Key; Supplier Part Number 3: LMH0036SQE/NOPBDKR-ND; RoHS: Y; PinCount: 48; Code_JEDEC: MO-220-WKKD-2; ComponentLink1Description: LMH0036 Datasheet; ComponentLink1URL: http://www.national.com/ds/LM/LMH0036.pdf; ComponentLink2Description: LMH0036 Web Page; ComponentLink2URL: http://www.national.com/pf/LM/LMH0036.html; ComponentLink3Description: SQA48A Package Page; ComponentLink3URL: http://www.national.com/packaging/folders/sqa48a.html
footprint SQA48A (QFN, 48-Leads, Body 7x7mm, Pitch 0.5mm, NSC Recommended)
pins: 1 SDI0 (in), 2 ~{SDI0} (in), 3 VCC (power), 4 SDI1 (in), 5 ~{SDI1} (in), 6 VCC (power), 7 SDI2 (in), 8 ~{SDI2} (in), 9 VCC (power), 10 SDI3 (in), 11 ~{SDI3} (in), 12 VCC (power), 13 VEE (power), 14 VCC (power), 15 BP/~{AUTO-BP} (in), 16 ~{O/PMUTE} (in), 17 VEE (power), 18 XTALIN/EXTCLK (in), 19 VEE (power), 20 VEE (power), 21 VEE (power), 22 XTALOUT (out), 23 VEE (power), 24 LOCKDET, 25 VEE (power), 26 VEE (power), 27 VEE (power), 28 ~{SCO/SDO2} (out), 29 SCO/SDO2 (out), 30 VCC (power), 31 VCC (power), 32 ~{SDO} (out), 33 SDO (out), 34 VCC (power), 35 VCC (power), 36 SD (out), 37 SCO_EN (in), 38 VEE (power), 39 VEE (power), 40 VEE (power), 41 VEE (power), 42 VEE (power), 43 LF1, 44 LF2, 45 NC, 46 RSVD, 47 SEL0 (in), 48 SEL1 (in), 49 VEE (power)

## LMH0036SQX/NOPB
designator U?
SD SDI Reclocker with 4:1 Input Multiplexer, 48-pin LLP, Pb-Free; PartNumber: LMH0036SQX/NOPB; Manufacturer: National Semiconductor; PackageTopMarking: NS*UZXYTTE#*XL036; PowerWise: N; CompType: Interface IC; Published: 1-Mar-2010; DatasheetVersion: Aug-2008; PackageVersion: revB, May-2009; PackageReference: SQA48A; Publisher: Altium Limited; PackageDescription: LLP, Plastic, Quad, 7 x 7 x 0.8mm Body, 48 Lead, 0.5mm Pitch, No Pullback; Supplier 1: Digi-Key; Supplier Part Number 1: LMH0036SQX-ND; RoHS: Y; PinCount: 48; Code_JEDEC: MO-220-WKKD-2; ComponentLink1Description: LMH0036 Datasheet; ComponentLink1URL: http://www.national.com/ds/LM/LMH0036.pdf; ComponentLink2Description: LMH0036 Web Page; ComponentLink2URL: http://www.national.com/pf/LM/LMH0036.html; ComponentLink3Description: SQA48A Package Page; ComponentLink3URL: http://www.national.com/packaging/folders/sqa48a.html
footprint SQA48A (QFN, 48-Leads, Body 7x7mm, Pitch 0.5mm, NSC Recommended)
pins: 1 SDI0 (in), 2 ~{SDI0} (in), 3 VCC (power), 4 SDI1 (in), 5 ~{SDI1} (in), 6 VCC (power), 7 SDI2 (in), 8 ~{SDI2} (in), 9 VCC (power), 10 SDI3 (in), 11 ~{SDI3} (in), 12 VCC (power), 13 VEE (power), 14 VCC (power), 15 BP/~{AUTO-BP} (in), 16 ~{O/PMUTE} (in), 17 VEE (power), 18 XTALIN/EXTCLK (in), 19 VEE (power), 20 VEE (power), 21 VEE (power), 22 XTALOUT (out), 23 VEE (power), 24 LOCKDET, 25 VEE (power), 26 VEE (power), 27 VEE (power), 28 ~{SCO/SDO2} (out), 29 SCO/SDO2 (out), 30 VCC (power), 31 VCC (power), 32 ~{SDO} (out), 33 SDO (out), 34 VCC (power), 35 VCC (power), 36 SD (out), 37 SCO_EN (in), 38 VEE (power), 39 VEE (power), 40 VEE (power), 41 VEE (power), 42 VEE (power), 43 LF1, 44 LF2, 45 NC, 46 RSVD, 47 SEL0 (in), 48 SEL1 (in), 49 VEE (power)

## LMH0040SQ
designator U?
HD, SD, DVB-ASI SDI Serializer and Driver with LVDS Interface, 48-pin LLP; PartNumber: LMH0040SQ; Manufacturer: National Semiconductor; PackageTopMarking: NS*UZXYTT*LMH0040; PowerWise: N; CompType: Interface IC; Published: 4-Dec-2008; DatasheetVersion: Oct-2008; PackageVersion: revB, May-2009; PackageReference: SQA48A; Publisher: Altium Limited; PackageDescription: LLP, Plastic, Quad, 7 x 7 x 0.8mm Body, 48 Lead, 0.5mm Pitch, No Pullback; RoHS: Y; PinCount: 48; Code_JEDEC: MO-220-WKKD-2; ComponentLink1Description: LMH0040 Datasheet; ComponentLink1URL: http://www.national.com/ds/LM/LMH0040.pdf; ComponentLink2Description: LMH0040 Web Page; ComponentLink2URL: http://www.national.com/pf/LM/LMH0040.html; ComponentLink3Description: SQA48A Package Page; ComponentLink3URL: http://www.national.com/packaging/folders/sqa48a.html
footprint SQA48A (QFN, 48-Leads, Body 7x7mm, Pitch 0.5mm, NSC Recommended)
pins: 1 VDD3V3 (power), 2 RSVD_H (in), 3 GPIO_0 (io), 4 GPIO_1 (io), 5 RSVD_H (in), 6 DVB_ASI (in), 7 VDD2V5 (power), 8 GND (power), 9 GND (power), 10 GND (power), 11 GPIO_2 (io), 12 GND (power), 13 GND (power), 14 RSET (in), 15 VDD2V5 (power), 16 TXOUT+ (out), 17 TXOUT- (out), 18 VDD2V5 (power), 19 DNC, 20 DNC, 21 GND (power), 22 GND (power), 23 GND (power), 24 GND (power), 25 VDD2V5 (power), 26 LF_REF, 27 LF_CP, 28 VDDPLL (power), 29 GND (power), 30 ~{RESET} (in), 31 ~{LOCK} (out), 32 SDA (io), 33 SCK (in), 34 SMB_CS (in), 35 VDD2V5 (power), 36 VDD3V3 (power), 37 TXCLK+ (in), 38 TXCLK- (in), 39 TX0+ (in), 40 TX0- (in), 41 TX1+ (in), 42 TX1- (in), 43 TX2+ (in), 44 TX2- (in), 45 TX3+ (in), 46 TX3- (in), 47 TX4+ (in), 48 TX4- (in), 49 DAP (power)

## LMH0040SQ/NOPB
designator U?
HD, SD, DVB-ASI SDI Serializer and Driver with LVDS Interface, 48-pin LLP, Pb-Free; PartNumber: LMH0040SQ/NOPB; Manufacturer: National Semiconductor; PackageTopMarking: NS*UZXYTTE#*LMH0040; PowerWise: N; CompType: Interface IC; Published: 1-Mar-2010; DatasheetVersion: Oct-2008; PackageVersion: revB, May-2009; PackageReference: SQA48A; Publisher: Altium Limited; PackageDescription: LLP, Plastic, Quad, 7 x 7 x 0.8mm Body, 48 Lead, 0.5mm Pitch, No Pullback; Supplier 1: Digi-Key; Supplier Part Number 1: LMH0040SQ-ND; RoHS: Y; PinCount: 48; Code_JEDEC: MO-220-WKKD-2; ComponentLink1Description: LMH0040 Datasheet; ComponentLink1URL: http://www.national.com/ds/LM/LMH0040.pdf; ComponentLink2Description: LMH0040 Web Page; ComponentLink2URL: http://www.national.com/pf/LM/LMH0040.html; ComponentLink3Description: SQA48A Package Page; ComponentLink3URL: http://www.national.com/packaging/folders/sqa48a.html
footprint SQA48A (QFN, 48-Leads, Body 7x7mm, Pitch 0.5mm, NSC Recommended)
pins: 1 VDD3V3 (power), 2 RSVD_H (in), 3 GPIO_0 (io), 4 GPIO_1 (io), 5 RSVD_H (in), 6 DVB_ASI (in), 7 VDD2V5 (power), 8 GND (power), 9 GND (power), 10 GND (power), 11 GPIO_2 (io), 12 GND (power), 13 GND (power), 14 RSET (in), 15 VDD2V5 (power), 16 TXOUT+ (out), 17 TXOUT- (out), 18 VDD2V5 (power), 19 DNC, 20 DNC, 21 GND (power), 22 GND (power), 23 GND (power), 24 GND (power), 25 VDD2V5 (power), 26 LF_REF, 27 LF_CP, 28 VDDPLL (power), 29 GND (power), 30 ~{RESET} (in), 31 ~{LOCK} (out), 32 SDA (io), 33 SCK (in), 34 SMB_CS (in), 35 VDD2V5 (power), 36 VDD3V3 (power), 37 TXCLK+ (in), 38 TXCLK- (in), 39 TX0+ (in), 40 TX0- (in), 41 TX1+ (in), 42 TX1- (in), 43 TX2+ (in), 44 TX2- (in), 45 TX3+ (in), 46 TX3- (in), 47 TX4+ (in), 48 TX4- (in), 49 DAP (power)

## LMH0040SQE/NOPB
designator U?
HD, SD, DVB-ASI SDI Serializer and Driver with LVDS Interface, 48-pin LLP, Pb-Free; PartNumber: LMH0040SQE/NOPB; Manufacturer: National Semiconductor; PackageTopMarking: NS*UZXYTTE#*LMH0040; PowerWise: N; CompType: Interface IC; Published: 1-Mar-2010; DatasheetVersion: Oct-2008; PackageVersion: revB, May-2009; PackageReference: SQA48A; Publisher: Altium Limited; PackageDescription: LLP, Plastic, Quad, 7 x 7 x 0.8mm Body, 48 Lead, 0.5mm Pitch, No Pullback; Supplier 1: Digi-Key; Supplier Part Number 1: LMH0040SQETR-ND; Supplier 2: Digi-Key; Supplier Part Number 2: LMH0040SQECT-ND; Supplier 3: Digi-Key; Supplier Part Number 3: LMH0040SQEDKR-ND; RoHS: Y; PinCount: 48; Code_JEDEC: MO-220-WKKD-2; ComponentLink1Description: LMH0040 Datasheet; ComponentLink1URL: http://www.national.com/ds/LM/LMH0040.pdf; ComponentLink2Description: LMH0040 Web Page; ComponentLink2URL: http://www.national.com/pf/LM/LMH0040.html; ComponentLink3Description: SQA48A Package Page; ComponentLink3URL: http://www.national.com/packaging/folders/sqa48a.html
footprint SQA48A (QFN, 48-Leads, Body 7x7mm, Pitch 0.5mm, NSC Recommended)
pins: 1 VDD3V3 (power), 2 RSVD_H (in), 3 GPIO_0 (io), 4 GPIO_1 (io), 5 RSVD_H (in), 6 DVB_ASI (in), 7 VDD2V5 (power), 8 GND (power), 9 GND (power), 10 GND (power), 11 GPIO_2 (io), 12 GND (power), 13 GND (power), 14 RSET (in), 15 VDD2V5 (power), 16 TXOUT+ (out), 17 TXOUT- (out), 18 VDD2V5 (power), 19 DNC, 20 DNC, 21 GND (power), 22 GND (power), 23 GND (power), 24 GND (power), 25 VDD2V5 (power), 26 LF_REF, 27 LF_CP, 28 VDDPLL (power), 29 GND (power), 30 ~{RESET} (in), 31 ~{LOCK} (out), 32 SDA (io), 33 SCK (in), 34 SMB_CS (in), 35 VDD2V5 (power), 36 VDD3V3 (power), 37 TXCLK+ (in), 38 TXCLK- (in), 39 TX0+ (in), 40 TX0- (in), 41 TX1+ (in), 42 TX1- (in), 43 TX2+ (in), 44 TX2- (in), 45 TX3+ (in), 46 TX3- (in), 47 TX4+ (in), 48 TX4- (in), 49 DAP (power)

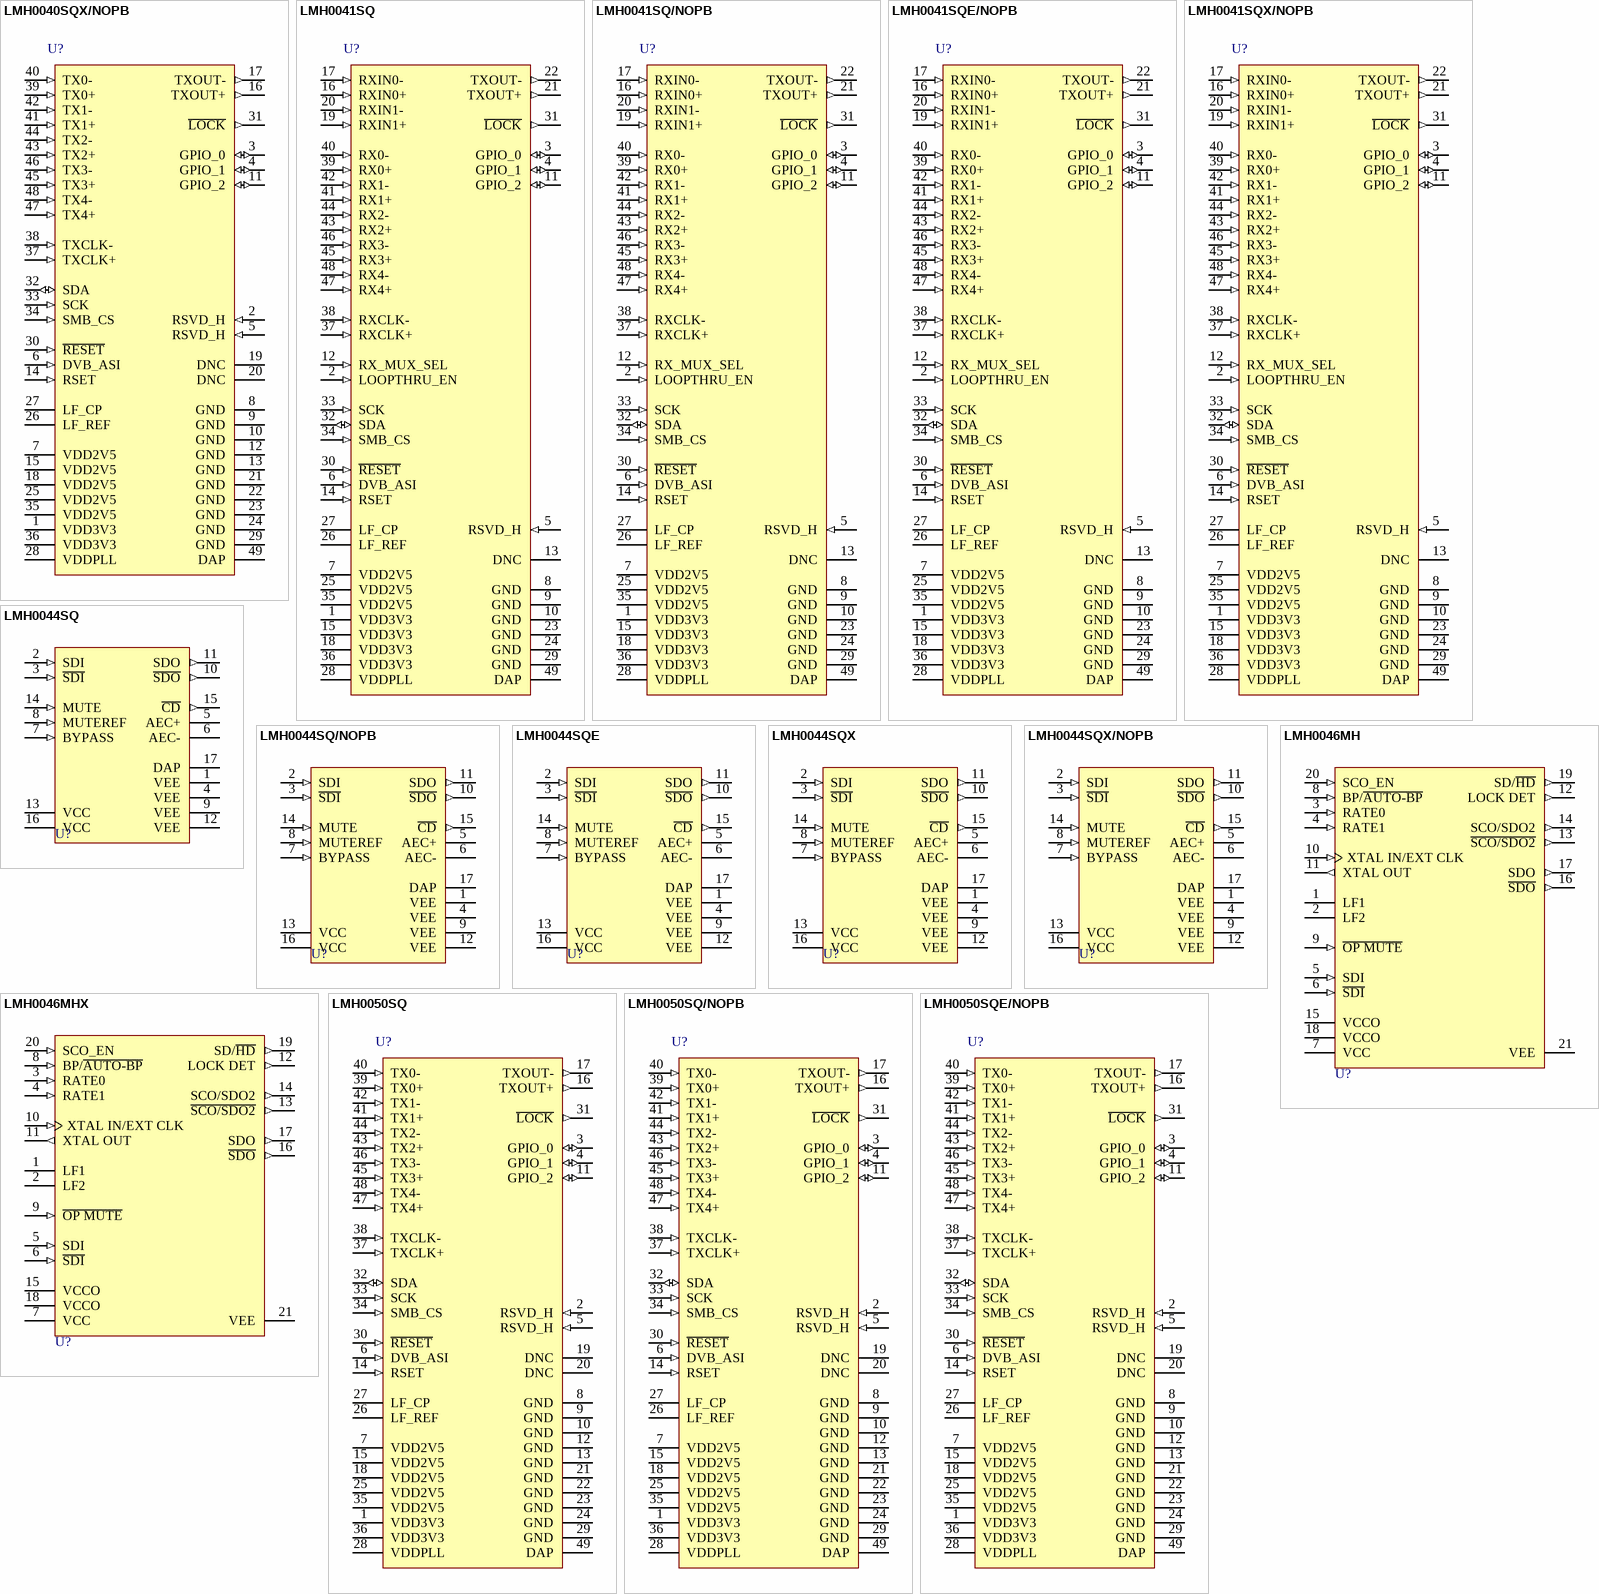
[diagram p78: symbols LMH0040SQX/NOPB to LMH0050SQE/NOPB]

## LMH0040SQX/NOPB
designator U?
HD, SD, DVB-ASI SDI Serializer and Driver with LVDS Interface, 48-pin LLP, Pb-Free; PartNumber: LMH0040SQX/NOPB; Manufacturer: National Semiconductor; PackageTopMarking: NS*UZXYTTE#*LMH0040; PowerWise: N; CompType: Interface IC; Published: 1-Mar-2010; DatasheetVersion: Oct-2008; PackageVersion: revB, May-2009; PackageReference: SQA48A; Publisher: Altium Limited; PackageDescription: LLP, Plastic, Quad, 7 x 7 x 0.8mm Body, 48 Lead, 0.5mm Pitch, No Pullback; Supplier 1: Digi-Key; Supplier Part Number 1: LMH0040SQX-ND; RoHS: Y; PinCount: 48; Code_JEDEC: MO-220-WKKD-2; ComponentLink1Description: LMH0040 Datasheet; ComponentLink1URL: http://www.national.com/ds/LM/LMH0040.pdf; ComponentLink2Description: LMH0040 Web Page; ComponentLink2URL: http://www.national.com/pf/LM/LMH0040.html; ComponentLink3Description: SQA48A Package Page; ComponentLink3URL: http://www.national.com/packaging/folders/sqa48a.html
footprint SQA48A (QFN, 48-Leads, Body 7x7mm, Pitch 0.5mm, NSC Recommended)
pins: 1 VDD3V3 (power), 2 RSVD_H (in), 3 GPIO_0 (io), 4 GPIO_1 (io), 5 RSVD_H (in), 6 DVB_ASI (in), 7 VDD2V5 (power), 8 GND (power), 9 GND (power), 10 GND (power), 11 GPIO_2 (io), 12 GND (power), 13 GND (power), 14 RSET (in), 15 VDD2V5 (power), 16 TXOUT+ (out), 17 TXOUT- (out), 18 VDD2V5 (power), 19 DNC, 20 DNC, 21 GND (power), 22 GND (power), 23 GND (power), 24 GND (power), 25 VDD2V5 (power), 26 LF_REF, 27 LF_CP, 28 VDDPLL (power), 29 GND (power), 30 ~{RESET} (in), 31 ~{LOCK} (out), 32 SDA (io), 33 SCK (in), 34 SMB_CS (in), 35 VDD2V5 (power), 36 VDD3V3 (power), 37 TXCLK+ (in), 38 TXCLK- (in), 39 TX0+ (in), 40 TX0- (in), 41 TX1+ (in), 42 TX1- (in), 43 TX2+ (in), 44 TX2- (in), 45 TX3+ (in), 46 TX3- (in), 47 TX4+ (in), 48 TX4- (in), 49 DAP (power)

## LMH0041SQ
designator U?
HD, SD, DVB-ASI SDI Deserializer with Loopthrough and LVDS Interface, 48-pin LLP; PartNumber: LMH0041SQ; Manufacturer: National Semiconductor; PackageTopMarking: NS*UZXYTT*LMH0041; PowerWise: N; CompType: Interface IC; Published: 4-Dec-2008; DatasheetVersion: Oct-2008; PackageVersion: revB, May-2009; PackageReference: SQA48A; Publisher: Altium Limited; PackageDescription: LLP, Plastic, Quad, 7 x 7 x 0.8mm Body, 48 Lead, 0.5mm Pitch, No Pullback; RoHS: Y; PinCount: 48; Code_JEDEC: MO-220-WKKD-2; ComponentLink1Description: LMH0041 Datasheet; ComponentLink1URL: http://www.national.com/ds/LM/LMH0041.pdf; ComponentLink2Description: LMH0041 Web Page; ComponentLink2URL: http://www.national.com/pf/LM/LMH0041.html; ComponentLink3Description: SQA48A Package Page; ComponentLink3URL: http://www.national.com/packaging/folders/sqa48a.html
footprint SQA48A (QFN, 48-Leads, Body 7x7mm, Pitch 0.5mm, NSC Recommended)
pins: 1 VDD3V3 (power), 2 LOOPTHRU_EN (in), 3 GPIO_0 (io), 4 GPIO_1 (io), 5 RSVD_H (in), 6 DVB_ASI (in), 7 VDD2V5 (power), 8 GND (power), 9 GND (power), 10 GND (power), 11 GPIO_2 (io), 12 RX_MUX_SEL (in), 13 DNC, 14 RSET (in), 15 VDD3V3 (power), 16 RXIN0+ (in), 17 RXIN0- (in), 18 VDD3V3 (power), 19 RXIN1+ (in), 20 RXIN1- (in), 21 TXOUT+ (out), 22 TXOUT- (out), 23 GND (power), 24 GND (power), 25 VDD2V5 (power), 26 LF_REF, 27 LF_CP, 28 VDDPLL (power), 29 GND (power), 30 ~{RESET} (in), 31 ~{LOCK} (out), 32 SDA (io), 33 SCK (in), 34 SMB_CS (in), 35 VDD2V5 (power), 36 VDD3V3 (power), 37 RXCLK+ (in), 38 RXCLK- (in), 39 RX0+ (in), 40 RX0- (in), 41 RX1+ (in), 42 RX1- (in), 43 RX2+ (in), 44 RX2- (in), 45 RX3+ (in), 46 RX3- (in), 47 RX4+ (in), 48 RX4- (in), 49 DAP (power)

## LMH0041SQ/NOPB
designator U?
HD, SD, DVB-ASI SDI Deserializer with Loopthrough and LVDS Interface, 48-pin LLP, Pb-Free; PartNumber: LMH0041SQ/NOPB; Manufacturer: National Semiconductor; PackageTopMarking: NS*UZXYTTE#*LMH0041; PowerWise: N; CompType: Interface IC; Published: 1-Mar-2010; DatasheetVersion: Oct-2008; PackageVersion: revB, May-2009; PackageReference: SQA48A; Publisher: Altium Limited; PackageDescription: LLP, Plastic, Quad, 7 x 7 x 0.8mm Body, 48 Lead, 0.5mm Pitch, No Pullback; Supplier 1: Digi-Key; Supplier Part Number 1: LMH0041SQTR-ND; Supplier 2: Digi-Key; Supplier Part Number 2: LMH0041SQCT-ND; Supplier 3: Digi-Key; Supplier Part Number 3: LMH0041SQDKR-ND; RoHS: Y; PinCount: 48; Code_JEDEC: MO-220-WKKD-2; ComponentLink1Description: LMH0041 Datasheet; ComponentLink1URL: http://www.national.com/ds/LM/LMH0041.pdf; ComponentLink2Description: LMH0041 Web Page; ComponentLink2URL: http://www.national.com/pf/LM/LMH0041.html; ComponentLink3Description: SQA48A Package Page; ComponentLink3URL: http://www.national.com/packaging/folders/sqa48a.html
footprint SQA48A (QFN, 48-Leads, Body 7x7mm, Pitch 0.5mm, NSC Recommended)
pins: 1 VDD3V3 (power), 2 LOOPTHRU_EN (in), 3 GPIO_0 (io), 4 GPIO_1 (io), 5 RSVD_H (in), 6 DVB_ASI (in), 7 VDD2V5 (power), 8 GND (power), 9 GND (power), 10 GND (power), 11 GPIO_2 (io), 12 RX_MUX_SEL (in), 13 DNC, 14 RSET (in), 15 VDD3V3 (power), 16 RXIN0+ (in), 17 RXIN0- (in), 18 VDD3V3 (power), 19 RXIN1+ (in), 20 RXIN1- (in), 21 TXOUT+ (out), 22 TXOUT- (out), 23 GND (power), 24 GND (power), 25 VDD2V5 (power), 26 LF_REF, 27 LF_CP, 28 VDDPLL (power), 29 GND (power), 30 ~{RESET} (in), 31 ~{LOCK} (out), 32 SDA (io), 33 SCK (in), 34 SMB_CS (in), 35 VDD2V5 (power), 36 VDD3V3 (power), 37 RXCLK+ (in), 38 RXCLK- (in), 39 RX0+ (in), 40 RX0- (in), 41 RX1+ (in), 42 RX1- (in), 43 RX2+ (in), 44 RX2- (in), 45 RX3+ (in), 46 RX3- (in), 47 RX4+ (in), 48 RX4- (in), 49 DAP (power)

## LMH0041SQE/NOPB
designator U?
HD, SD, DVB-ASI SDI Deserializer with Loopthrough and LVDS Interface, 48 pin LLP; PartNumber: LMH0041SQE/NOPB; Manufacturer: National Semiconductor; PackageTopMarking: NS*UZXYTTE#*LMH0041; PowerWise: N; CompType: Interface IC; Published: 16-Nov-2010; DatasheetVersion: Oct-2008; PackageVersion: revB, May-2009; PackageReference: SQA48A; Publisher: Altium Limited; PackageDescription: LLP, Plastic, Quad, 7 x 7 x 0.8mm Body, 48 Lead, 0.5mm Pitch, No Pullback; Supplier 1: Digi-Key; Supplier Part Number 1: LMH0041SQE-ND; RoHS: Y; PinCount: 48; Code_JEDEC: MO-220-WKKD-2; ComponentLink1Description: LMH0041 Datasheet; ComponentLink1URL: http://www.national.com/ds/LM/LMH0041.pdf; ComponentLink2Description: LMH0041 Web Page; ComponentLink2URL: http://www.national.com/pf/LM/LMH0041.html; ComponentLink3Description: SQA48A Package Page; ComponentLink3URL: http://www.national.com/packaging/folders/sqa48a.html
footprint SQA48A (QFN, 48-Leads, Body 7x7mm, Pitch 0.5mm, NSC Recommended)
pins: 1 VDD3V3 (power), 2 LOOPTHRU_EN (in), 3 GPIO_0 (io), 4 GPIO_1 (io), 5 RSVD_H (in), 6 DVB_ASI (in), 7 VDD2V5 (power), 8 GND (power), 9 GND (power), 10 GND (power), 11 GPIO_2 (io), 12 RX_MUX_SEL (in), 13 DNC, 14 RSET (in), 15 VDD3V3 (power), 16 RXIN0+ (in), 17 RXIN0- (in), 18 VDD3V3 (power), 19 RXIN1+ (in), 20 RXIN1- (in), 21 TXOUT+ (out), 22 TXOUT- (out), 23 GND (power), 24 GND (power), 25 VDD2V5 (power), 26 LF_REF, 27 LF_CP, 28 VDDPLL (power), 29 GND (power), 30 ~{RESET} (in), 31 ~{LOCK} (out), 32 SDA (io), 33 SCK (in), 34 SMB_CS (in), 35 VDD2V5 (power), 36 VDD3V3 (power), 37 RXCLK+ (in), 38 RXCLK- (in), 39 RX0+ (in), 40 RX0- (in), 41 RX1+ (in), 42 RX1- (in), 43 RX2+ (in), 44 RX2- (in), 45 RX3+ (in), 46 RX3- (in), 47 RX4+ (in), 48 RX4- (in), 49 DAP (power)

## LMH0041SQX/NOPB
designator U?
HD, SD, DVB-ASI SDI Deserializer with Loopthrough and LVDS Interface, 48-pin LLP, Pb-Free; PartNumber: LMH0041SQX/NOPB; Manufacturer: National Semiconductor; PackageTopMarking: NS*UZXYTTE#*LMH0041; PowerWise: N; CompType: Interface IC; Published: 1-Mar-2010; DatasheetVersion: Oct-2008; PackageVersion: revB, May-2009; PackageReference: SQA48A; Publisher: Altium Limited; PackageDescription: LLP, Plastic, Quad, 7 x 7 x 0.8mm Body, 48 Lead, 0.5mm Pitch, No Pullback; Supplier 1: Digi-Key; Supplier Part Number 1: LMH0041SQX-ND; RoHS: Y; PinCount: 48; Code_JEDEC: MO-220-WKKD-2; ComponentLink1Description: LMH0041 Datasheet; ComponentLink1URL: http://www.national.com/ds/LM/LMH0041.pdf; ComponentLink2Description: LMH0041 Web Page; ComponentLink2URL: http://www.national.com/pf/LM/LMH0041.html; ComponentLink3Description: SQA48A Package Page; ComponentLink3URL: http://www.national.com/packaging/folders/sqa48a.html
footprint SQA48A (QFN, 48-Leads, Body 7x7mm, Pitch 0.5mm, NSC Recommended)
pins: 1 VDD3V3 (power), 2 LOOPTHRU_EN (in), 3 GPIO_0 (io), 4 GPIO_1 (io), 5 RSVD_H (in), 6 DVB_ASI (in), 7 VDD2V5 (power), 8 GND (power), 9 GND (power), 10 GND (power), 11 GPIO_2 (io), 12 RX_MUX_SEL (in), 13 DNC, 14 RSET (in), 15 VDD3V3 (power), 16 RXIN0+ (in), 17 RXIN0- (in), 18 VDD3V3 (power), 19 RXIN1+ (in), 20 RXIN1- (in), 21 TXOUT+ (out), 22 TXOUT- (out), 23 GND (power), 24 GND (power), 25 VDD2V5 (power), 26 LF_REF, 27 LF_CP, 28 VDDPLL (power), 29 GND (power), 30 ~{RESET} (in), 31 ~{LOCK} (out), 32 SDA (io), 33 SCK (in), 34 SMB_CS (in), 35 VDD2V5 (power), 36 VDD3V3 (power), 37 RXCLK+ (in), 38 RXCLK- (in), 39 RX0+ (in), 40 RX0- (in), 41 RX1+ (in), 42 RX1- (in), 43 RX2+ (in), 44 RX2- (in), 45 RX3+ (in), 46 RX3- (in), 47 RX4+ (in), 48 RX4- (in), 49 DAP (power)

## LMH0044SQ
designator U?
SMPTE 292M / 259M Adaptive Cable Equalizer, 16-pin LLP; PartNumber: LMH0044SQ; Manufacturer: National Semiconductor; PackageTopMarking: NS*UZXYTT*L044; PowerWise: N; CompType: Interface IC; Published: 4-Dec-2008; DatasheetVersion: Jul-2009; PackageVersion: revA, Dec-2005; PackageReference: SQB16A; Publisher: Altium Limited; PackageDescription: LLP, Plastic, Quad, 4 x 4 x 0.8mm, 16 Lead, 0.65mm Pitch, No Pullback; RoHS: N; PinCount: 16; ComponentLink1Description: LMH0044 Datasheet; ComponentLink1URL: http://www.national.com/ds/LM/LMH0044.pdf; ComponentLink2Description: LMH0044 Web Page; ComponentLink2URL: http://www.national.com/pf/LM/LMH0044.html; ComponentLink3Description: SQB16A Package Page; ComponentLink3URL: http://www.national.com/packaging/folders/sqb16a.html
footprint SQB16A (QFN, 16-Leads, Body 4x4mm, Pitch 0.65mm, NSC Recommended)
pins: 1 VEE (power), 2 SDI (in), 3 ~{SDI} (in), 4 VEE (power), 5 AEC+, 6 AEC-, 7 BYPASS (in), 8 MUTEREF (in), 9 VEE (power), 10 ~{SDO} (out), 11 SDO (out), 12 VEE (power), 13 VCC (power), 14 MUTE (in), 15 ~{CD} (out), 16 VCC (power), 17 DAP (power)

## LMH0044SQ/NOPB
designator U?
SMPTE 292M / 259M Adaptive Cable Equalizer, 16-pin LLP, Pb-Free; PartNumber: LMH0044SQ/NOPB; Manufacturer: National Semiconductor; PackageTopMarking: NS*UZXYTT*L044; PowerWise: N; CompType: Interface IC; Published: 1-Mar-2010; DatasheetVersion: Jul-2009; PackageVersion: revA, Dec-2005; PackageReference: SQB16A; Publisher: Altium Limited; PackageDescription: LLP, Plastic, Quad, 4 x 4 x 0.8mm, 16 Lead, 0.65mm Pitch, No Pullback; Supplier 1: Digi-Key; Supplier Part Number 1: LMH0044SQTR-ND; Supplier 2: Digi-Key; Supplier Part Number 2: LMH0044SQCT-ND; Supplier 3: Digi-Key; Supplier Part Number 3: LMH0044SQDKR-ND; Supplier 4: Farnell; Supplier Part Number 4: 1559246; RoHS: Y; PinCount: 16; ComponentLink1Description: LMH0044 Datasheet; ComponentLink1URL: http://www.national.com/ds/LM/LMH0044.pdf; ComponentLink2Description: LMH0044 Web Page; ComponentLink2URL: http://www.national.com/pf/LM/LMH0044.html; ComponentLink3Description: SQB16A Package Page; ComponentLink3URL: http://www.national.com/packaging/folders/sqb16a.html
footprint SQB16A (QFN, 16-Leads, Body 4x4mm, Pitch 0.65mm, NSC Recommended)
pins: 1 VEE (power), 2 SDI (in), 3 ~{SDI} (in), 4 VEE (power), 5 AEC+, 6 AEC-, 7 BYPASS (in), 8 MUTEREF (in), 9 VEE (power), 10 ~{SDO} (out), 11 SDO (out), 12 VEE (power), 13 VCC (power), 14 MUTE (in), 15 ~{CD} (out), 16 VCC (power), 17 DAP (power)